# Altium integrated library Linear Technology Power Management System Supervisor, Monitor and Control.IntLib: 1611 symbols (part 95 of 100)
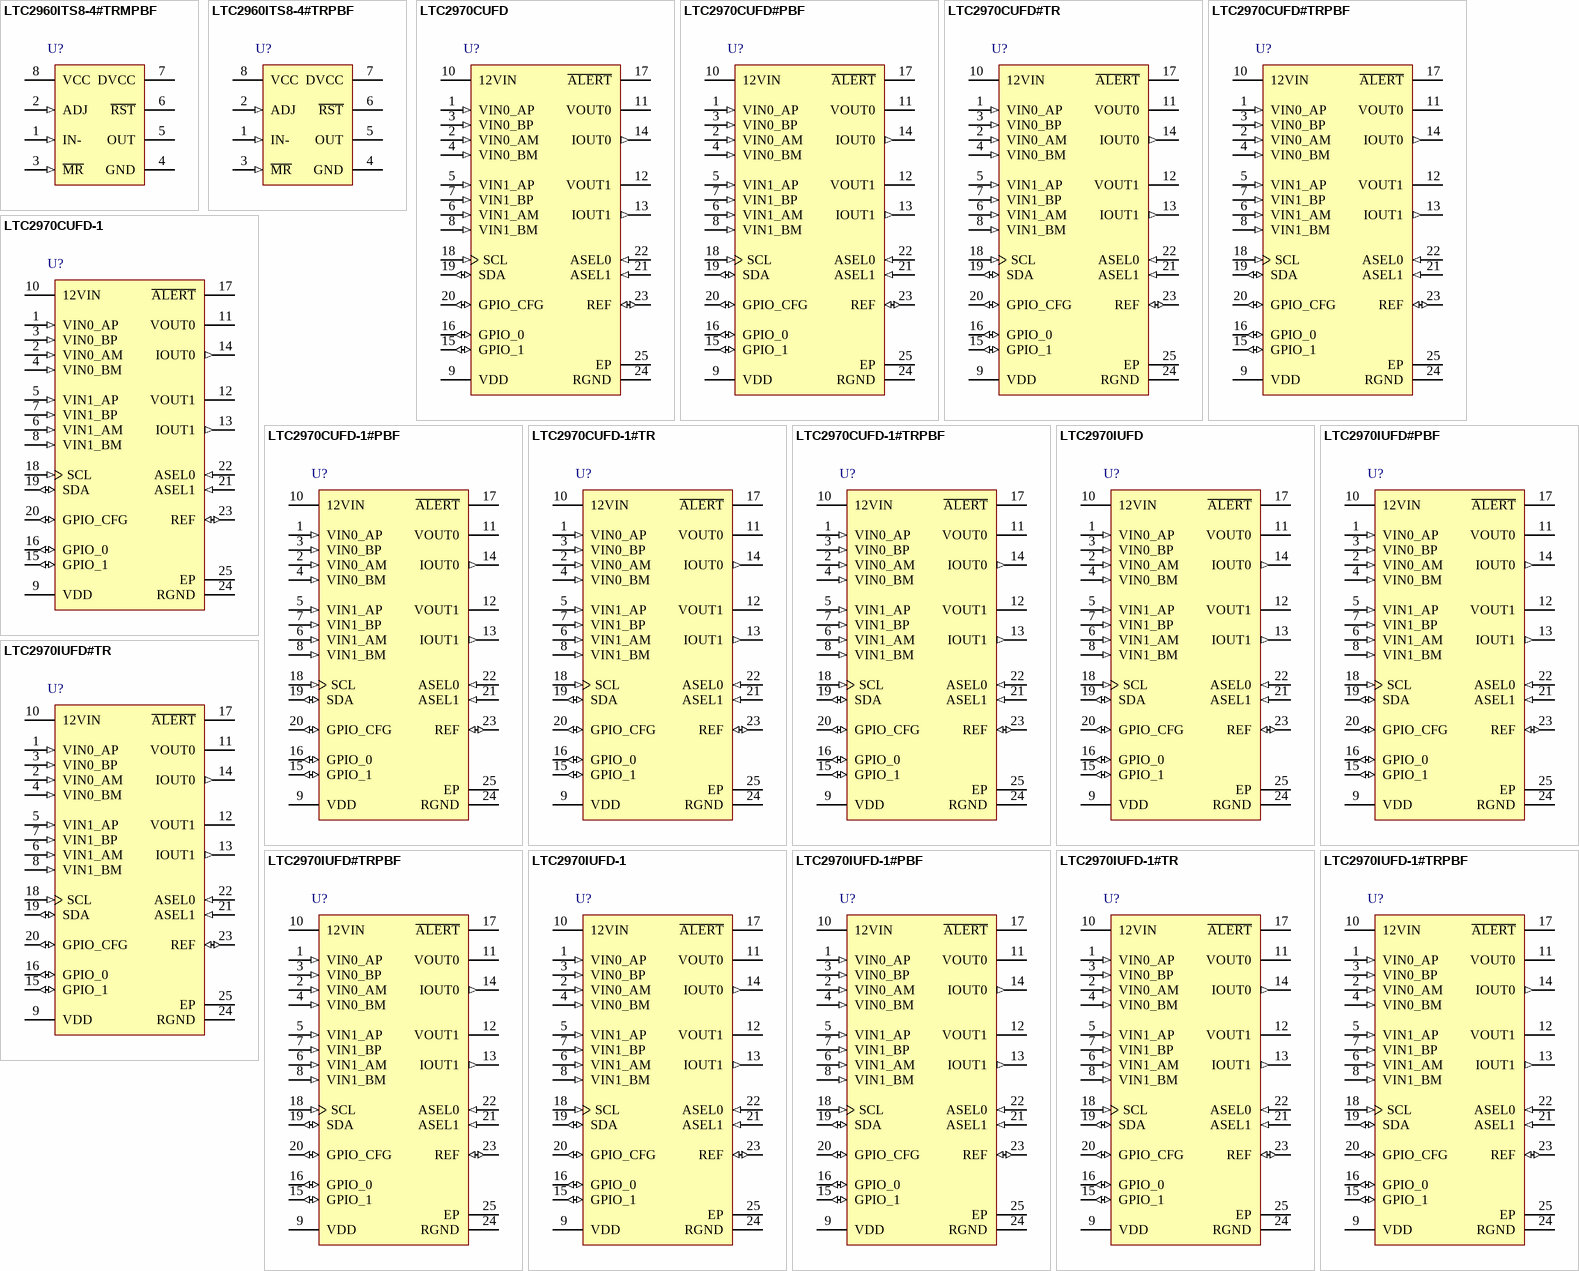
[diagram p139: symbols LTC2960ITS8-4#TRMPBF to LTC2970IUFD-1#TRPBF]

## LTC2960ITS8-4#TRMPBF
designator U?
36 V Nano-Current Two Input Voltage Monitor, 8-pin SOT23 (TS8-8), -40 to 85 degC, Pb-Free, Mini Tape and Reel; Manufacturer: Linear Technology; PartNumber: LTC2960ITS8-4#TRMPBF; Number of Supplies(#): 2; PackageVersion: Rev. A, 08/2010; PackageReference: TS8-8; PackageDescription: 8-Pin Plastic TSOT-23, Body 2.9 x 1.63 mm, Pitch 0.65 mm; Supplier 1: Digi-Key; Supplier Part Number 1: LTC2960ITS8-4#TRMPBFTR-ND; Supplier 2: Digi-Key; Supplier Part Number 2: LTC2960ITS8-4#TRMPBFCT-ND; Supplier 3: Digi-Key; Supplier Part Number 3: LTC2960ITS8-4#TRMPBFDKR-ND; Packing: Mini Tape and Reel; RoHS: TRUE; Mounting Technology: Surface Mount; Code_JEDEC: MO-193; ComponentLink1Description: Manufacturer URL; ComponentLink1URL: http://www.linear.com/; ComponentLink2Description: Datasheet; ComponentLink2URL: http://cds.linear.com/docs/en/datasheet/2960f.pdf; ComponentLink3Description: Package Specification; ComponentLink3URL: http://cds.linear.com/docs/en/packaging/SOT_8_05-08-1637.pdf
footprint LT-TS8-8-TSOT-23_V (SOT23, 8-Leads, Body 2.9x1.75mm, Pitch 0.65mm)
pins: 1 IN- (in) "IN- Threshold Adjustment Input. Tie to resistive divider to configure required threshold. Tie to GND if unused.", 2 ADJ (in) "Reset Threshold Adjustment Input. Tie to resistive divider to configure desired reset threshold.", 3 ~{MR} (in) "Manual Reset Input. Attach a push-button switch or logic signal between this input and ground. A logic low on this input pulls R\S\T\ low. When the M\R\ input returns to logic high, R\S\T\ returns high after a reset timeout (See Datasheet)", 4 GND (power) "Device ground.", 5 OUT (oc) "OUT pulls low when the monitored voltage rises above the IN- threshold. Released when monitored voltage falls below IN- threshold by 5%. For the LTC2960-4, OUT is driven to DVCC for a logic high. OUT is open drain if DVCC is (See Datasheet)", 6 ~{RST} (oc) "Reset Output. Pulls low when monitored voltage falls below the reset (ADJ) threshold. R\S\T\ is released after monitored voltage exceeds the reset threshold plus 2.5% hysteresis and after reset timeout period has expired. (See Datasheet)", 7 DVCC (power) "Logic Supply Input. Used for setting the logic swing of the R\S\T\ and OUT outputs. Useful for interfacing with logic voltages different from VCC. Bypass DVCC with 0.1uF to GND. Grounding DVCC allows OUT and R\S\T\ to act as (See Datasheet)", 8 VCC (power) "Power Supply Input. When VCC falls below the falling UVLO threshold, the outputs are pulled low. If VCC falls below 1.2V the logic state of the outputs cannot be guaranteed. Bypass VCC with 0.1uF to GND. Use appropriate (See Datasheet)"

## LTC2960ITS8-4#TRPBF
designator U?
36 V Nano-Current Two Input Voltage Monitor, 8-pin SOT23 (TS8-8), -40 to 85 degC, Pb-Free, Tape and Reel; Manufacturer: Linear Technology; PartNumber: LTC2960ITS8-4#TRPBF; Number of Supplies(#): 2; PackageVersion: Rev. A, 08/2010; PackageReference: TS8-8; PackageDescription: 8-Pin Plastic TSOT-23, Body 2.9 x 1.63 mm, Pitch 0.65 mm; Supplier 1: Digi-Key; Supplier Part Number 1: LTC2960ITS8-4#TRPBF-ND; Packing: Tape and Reel; RoHS: TRUE; Mounting Technology: Surface Mount; Code_JEDEC: MO-193; ComponentLink1Description: Manufacturer URL; ComponentLink1URL: http://www.linear.com/; ComponentLink2Description: Datasheet; ComponentLink2URL: http://cds.linear.com/docs/en/datasheet/2960f.pdf; ComponentLink3Description: Package Specification; ComponentLink3URL: http://cds.linear.com/docs/en/packaging/SOT_8_05-08-1637.pdf
footprint LT-TS8-8-TSOT-23_V (SOT23, 8-Leads, Body 2.9x1.75mm, Pitch 0.65mm)
pins: 1 IN- (in) "IN- Threshold Adjustment Input. Tie to resistive divider to configure required threshold. Tie to GND if unused.", 2 ADJ (in) "Reset Threshold Adjustment Input. Tie to resistive divider to configure desired reset threshold.", 3 ~{MR} (in) "Manual Reset Input. Attach a push-button switch or logic signal between this input and ground. A logic low on this input pulls R\S\T\ low. When the M\R\ input returns to logic high, R\S\T\ returns high after a reset timeout (See Datasheet)", 4 GND (power) "Device ground.", 5 OUT (oc) "OUT pulls low when the monitored voltage rises above the IN- threshold. Released when monitored voltage falls below IN- threshold by 5%. For the LTC2960-4, OUT is driven to DVCC for a logic high. OUT is open drain if DVCC is (See Datasheet)", 6 ~{RST} (oc) "Reset Output. Pulls low when monitored voltage falls below the reset (ADJ) threshold. R\S\T\ is released after monitored voltage exceeds the reset threshold plus 2.5% hysteresis and after reset timeout period has expired. (See Datasheet)", 7 DVCC (power) "Logic Supply Input. Used for setting the logic swing of the R\S\T\ and OUT outputs. Useful for interfacing with logic voltages different from VCC. Bypass DVCC with 0.1uF to GND. Grounding DVCC allows OUT and R\S\T\ to act as (See Datasheet)", 8 VCC (power) "Power Supply Input. When VCC falls below the falling UVLO threshold, the outputs are pulled low. If VCC falls below 1.2V the logic state of the outputs cannot be guaranteed. Bypass VCC with 0.1uF to GND. Use appropriate (See Datasheet)"

## LTC2970CUFD
designator U?
Dual I2C Power Supply Monitor and Margining Controller, 24-pin QFN (UFD-24), 0 to 70 degC; Manufacturer: Linear Technology; PartNumber: LTC2970CUFD; Number of Supplies(#): 2; DatasheetVersion: Rev. C; PackageVersion: Rev. A, 06/2010; PackageReference: UFD-24; PackageDescription: 24-Pin Plastic QFN, Body 5 x 4 mm, Pitch 0.5 mm; RoHS: FALSE; Mounting Technology: Surface Mount; Code_JEDEC: MO-220; ComponentLink1Description: Manufacturer URL; ComponentLink1URL: http://www.linear.com/; ComponentLink2Description: Datasheet; ComponentLink2URL: http://cds.linear.com/docs/en/datasheet/29701fc.pdf; ComponentLink3Description: Package Specification; ComponentLink3URL: http://cds.linear.com/docs/en/packaging/QFN_24_05-08-1696.pdf
footprint LT-UFD-24_N (QFN, 24-Leads, Body 5.1x4.1mm, Pitch 0.5mm, Thermal Pad 3.65x2.65 mm, IPC Medium Density)
footprint LT-UFD-24_L (QFN, 24-Leads, Body 5.1x4.1mm, Pitch 0.5mm, Thermal Pad 3.65x2.65 mm, IPC High Density)
footprint LT-UFD-24_M (QFN, 24-Leads, Body 5.1x4.1mm, Pitch 0.5mm, Thermal Pad 3.65x2.65 mm, IPC Low Density)
pins: 1 VIN0_AP (in) "Positive CH0_A ADC Multiplexer Input. The output of the differential, 7:1 multiplexer connects to the input of the ADC. CH0_A can be configured to servo IDAC0.", 2 VIN0_AM (in) "Negative CH0_A ADC Multiplexer Input. The output of the differential, 7:1 multiplexer connects to the input of the ADC. CH0_A can be configured to servo IDAC0.", 3 VIN0_BP (in) "Positive CH0_B ADC Multiplexer Input. The output of the differential, 7:1 multiplexer connects to the input of the ADC. CH0_B is a voltage monitor input only.", 4 VIN0_BM (in) "Negative CH0_B ADC Multiplexer Input. The output of the differential, 7:1 multiplexer connects to the input of the ADC. CH0_B is a voltage monitor input only.", 5 VIN1_AP (in) "Positive CH1_A ADC Multiplexer Input. The output of the differential, 7:1 multiplexer connects to the input of the ADC. CH1_A can be configured to servo IDAC1.", 6 VIN1_AM (in) "Negative CH1_A ADC Multiplexer Input. The output of the differential, 7:1 multiplexer connects to the input of the ADC. CH1_A can be configured to servo IDAC1.", 7 VIN1_BP (in) "Positive CH1_B ADC Multiplexer Input. The output of the differential, 7:1 multiplexer connects to the input of the ADC. CH1_B is a voltage monitor input only.", 8 VIN1_BM (in) "Negative CH1_B ADC Multiplexer Input. The output of the differential, 7:1 multiplexer connects to the input of the ADC. CH1_B is a voltage monitor input only.", 9 VDD (power) "VDD Power Supply, Voltage Monitor Input, and Internal 5V Regulator Output. The supply input range is 4.5V to 5.75V. The VDD pin voltage can be connected to the ADC through an internal mux. Bypass the VDD pin to device ground (See Datasheet)", 10 12VIN (power) "12V Power Supply and Voltage Monitor Input. An internal regulator generates 5V from 12VIN. The input range for 12VIN is 8V to 15V. Bypass this pin with a 100nF capacitor. The regulator’s output is connected to the VDD pin(See Datasheet)", 11 VOUT0 (power) "CH0 Voltage Output. Buffered version of IDAC0 output voltage.", 12 VOUT1 (power) "CH1 Voltage Output. Buffered version of IDAC1 output voltage.", 13 IOUT1 (out) "IDAC1 Current Output. Connect a resistor between this pin and the point-of-load ground for channel 1. The IDAC sources between 0 and 255uA.", 14 IOUT0 (out) "IDAC0 Current Output. Connect a resistor between this pin and the point-of-load ground for channel 0. The IDAC sources between 0 and 255uA.", 15 GPIO_1 (io) "General Purpose Input or Open Drain Digital Output. GPIO_1 can be configured as the IDAC Fault or Faults output, a digital input, or an open-drain digital output.", 16 GPIO_0 (io) "General Purpose Input or Open Drain Digital Output. GPIO_0 can be configured as the voltage monitor power-good or power-good bar output, a digital input, or a programmable open-drain output. Power good is the NOR of all (See Datasheet)", 17 ~{ALERT} (oc) "Open Drain Digital Output. Connect the SMBALERT signal to this pin. A\L\E\R\T\ is asserted low when either IDAC0 or IDAC1 rails out (optional), or when one of the monitored voltages ventures outside its UV and OV thresholds (See Datasheet)", 18 SCL (in) "Serial Bus Clock Input.", 19 SDA (io) "Serial Bus Data Input and Output.", 20 GPIO_CFG (io) "GPIO Configuration Digital Input and Open Drain Output. Pulling GPIO_CFG high will cause the GPIO_0 and GPIO_1 open-drain outputs to automatically assert low after a power-on reset. If GPIO_CFG is pulled low, then GPIO_0 and (See Datasheet)", 21 ASEL1 (in) "Slave Address Select Bit 1. Tie this pin to the VDD pin, ground, or float in order to select the address location (see Table 2).", 22 ASEL0 (in) "Slave Address Select Bit 0. Tie this pin to the VDD pin, ground, or float in order to select the address location (see Table 2).", 23 REF (io) "Internal Reference Output or ADC Reference Overdrive Input. The voltage at this pin determines the full-scale input voltage of the delta-sigma ADC (VFULLSCALE = 6.65 • VREF , typically). An internal 3.5k resistor decouple(See Datasheet)", 24 RGND (power) "Reference Ground. Connect to device ground.", 25 EP (power) "Device Ground. Must be soldered to ground."

## LTC2970CUFD#PBF
designator U?
Dual I2C Power Supply Monitor and Margining Controller, 24-pin QFN (UFD-24), 0 to 70 degC, Pb-Free; Manufacturer: Linear Technology; PartNumber: LTC2970CUFD#PBF; Number of Supplies(#): 2; DatasheetVersion: Rev. C; PackageVersion: Rev. A, 06/2010; PackageReference: UFD-24; PackageDescription: 24-Pin Plastic QFN, Body 5 x 4 mm, Pitch 0.5 mm; Supplier 1: Digi-Key; Supplier Part Number 1: LTC2970CUFD#PBF-ND; Supplier 2: Newark; Supplier Part Number 2: 56M7286; RoHS: TRUE; Mounting Technology: Surface Mount; Code_JEDEC: MO-220; ComponentLink1Description: Manufacturer URL; ComponentLink1URL: http://www.linear.com/; ComponentLink2Description: Datasheet; ComponentLink2URL: http://cds.linear.com/docs/en/datasheet/29701fc.pdf; ComponentLink3Description: Package Specification; ComponentLink3URL: http://cds.linear.com/docs/en/packaging/QFN_24_05-08-1696.pdf
footprint LT-UFD-24_N (QFN, 24-Leads, Body 5.1x4.1mm, Pitch 0.5mm, Thermal Pad 3.65x2.65 mm, IPC Medium Density)
footprint LT-UFD-24_L (QFN, 24-Leads, Body 5.1x4.1mm, Pitch 0.5mm, Thermal Pad 3.65x2.65 mm, IPC High Density)
footprint LT-UFD-24_M (QFN, 24-Leads, Body 5.1x4.1mm, Pitch 0.5mm, Thermal Pad 3.65x2.65 mm, IPC Low Density)
pins: 1 VIN0_AP (in) "Positive CH0_A ADC Multiplexer Input. The output of the differential, 7:1 multiplexer connects to the input of the ADC. CH0_A can be configured to servo IDAC0.", 2 VIN0_AM (in) "Negative CH0_A ADC Multiplexer Input. The output of the differential, 7:1 multiplexer connects to the input of the ADC. CH0_A can be configured to servo IDAC0.", 3 VIN0_BP (in) "Positive CH0_B ADC Multiplexer Input. The output of the differential, 7:1 multiplexer connects to the input of the ADC. CH0_B is a voltage monitor input only.", 4 VIN0_BM (in) "Negative CH0_B ADC Multiplexer Input. The output of the differential, 7:1 multiplexer connects to the input of the ADC. CH0_B is a voltage monitor input only.", 5 VIN1_AP (in) "Positive CH1_A ADC Multiplexer Input. The output of the differential, 7:1 multiplexer connects to the input of the ADC. CH1_A can be configured to servo IDAC1.", 6 VIN1_AM (in) "Negative CH1_A ADC Multiplexer Input. The output of the differential, 7:1 multiplexer connects to the input of the ADC. CH1_A can be configured to servo IDAC1.", 7 VIN1_BP (in) "Positive CH1_B ADC Multiplexer Input. The output of the differential, 7:1 multiplexer connects to the input of the ADC. CH1_B is a voltage monitor input only.", 8 VIN1_BM (in) "Negative CH1_B ADC Multiplexer Input. The output of the differential, 7:1 multiplexer connects to the input of the ADC. CH1_B is a voltage monitor input only.", 9 VDD (power) "VDD Power Supply, Voltage Monitor Input, and Internal 5V Regulator Output. The supply input range is 4.5V to 5.75V. The VDD pin voltage can be connected to the ADC through an internal mux. Bypass the VDD pin to device ground (See Datasheet)", 10 12VIN (power) "12V Power Supply and Voltage Monitor Input. An internal regulator generates 5V from 12VIN. The input range for 12VIN is 8V to 15V. Bypass this pin with a 100nF capacitor. The regulator’s output is connected to the VDD pin(See Datasheet)", 11 VOUT0 (power) "CH0 Voltage Output. Buffered version of IDAC0 output voltage.", 12 VOUT1 (power) "CH1 Voltage Output. Buffered version of IDAC1 output voltage.", 13 IOUT1 (out) "IDAC1 Current Output. Connect a resistor between this pin and the point-of-load ground for channel 1. The IDAC sources between 0 and 255uA.", 14 IOUT0 (out) "IDAC0 Current Output. Connect a resistor between this pin and the point-of-load ground for channel 0. The IDAC sources between 0 and 255uA.", 15 GPIO_1 (io) "General Purpose Input or Open Drain Digital Output. GPIO_1 can be configured as the IDAC Fault or Faults output, a digital input, or an open-drain digital output.", 16 GPIO_0 (io) "General Purpose Input or Open Drain Digital Output. GPIO_0 can be configured as the voltage monitor power-good or power-good bar output, a digital input, or a programmable open-drain output. Power good is the NOR of all (See Datasheet)", 17 ~{ALERT} (oc) "Open Drain Digital Output. Connect the SMBALERT signal to this pin. A\L\E\R\T\ is asserted low when either IDAC0 or IDAC1 rails out (optional), or when one of the monitored voltages ventures outside its UV and OV thresholds (See Datasheet)", 18 SCL (in) "Serial Bus Clock Input.", 19 SDA (io) "Serial Bus Data Input and Output.", 20 GPIO_CFG (io) "GPIO Configuration Digital Input and Open Drain Output. Pulling GPIO_CFG high will cause the GPIO_0 and GPIO_1 open-drain outputs to automatically assert low after a power-on reset. If GPIO_CFG is pulled low, then GPIO_0 and (See Datasheet)", 21 ASEL1 (in) "Slave Address Select Bit 1. Tie this pin to the VDD pin, ground, or float in order to select the address location (see Table 2).", 22 ASEL0 (in) "Slave Address Select Bit 0. Tie this pin to the VDD pin, ground, or float in order to select the address location (see Table 2).", 23 REF (io) "Internal Reference Output or ADC Reference Overdrive Input. The voltage at this pin determines the full-scale input voltage of the delta-sigma ADC (VFULLSCALE = 6.65 • VREF , typically). An internal 3.5k resistor decouple(See Datasheet)", 24 RGND (power) "Reference Ground. Connect to device ground.", 25 EP (power) "Device Ground. Must be soldered to ground."

## LTC2970CUFD#TR
designator U?
Dual I2C Power Supply Monitor and Margining Controller, 24-pin QFN (UFD-24), 0 to 70 degC, Tape and Reel; Manufacturer: Linear Technology; PartNumber: LTC2970CUFD#TR; Number of Supplies(#): 2; DatasheetVersion: Rev. C; PackageVersion: Rev. A, 06/2010; PackageReference: UFD-24; PackageDescription: 24-Pin Plastic QFN, Body 5 x 4 mm, Pitch 0.5 mm; Packing: Tape and Reel; RoHS: FALSE; Mounting Technology: Surface Mount; Code_JEDEC: MO-220; ComponentLink1Description: Manufacturer URL; ComponentLink1URL: http://www.linear.com/; ComponentLink2Description: Datasheet; ComponentLink2URL: http://cds.linear.com/docs/en/datasheet/29701fc.pdf; ComponentLink3Description: Package Specification; ComponentLink3URL: http://cds.linear.com/docs/en/packaging/QFN_24_05-08-1696.pdf
footprint LT-UFD-24_N (QFN, 24-Leads, Body 5.1x4.1mm, Pitch 0.5mm, Thermal Pad 3.65x2.65 mm, IPC Medium Density)
footprint LT-UFD-24_L (QFN, 24-Leads, Body 5.1x4.1mm, Pitch 0.5mm, Thermal Pad 3.65x2.65 mm, IPC High Density)
footprint LT-UFD-24_M (QFN, 24-Leads, Body 5.1x4.1mm, Pitch 0.5mm, Thermal Pad 3.65x2.65 mm, IPC Low Density)
pins: 1 VIN0_AP (in) "Positive CH0_A ADC Multiplexer Input. The output of the differential, 7:1 multiplexer connects to the input of the ADC. CH0_A can be configured to servo IDAC0.", 2 VIN0_AM (in) "Negative CH0_A ADC Multiplexer Input. The output of the differential, 7:1 multiplexer connects to the input of the ADC. CH0_A can be configured to servo IDAC0.", 3 VIN0_BP (in) "Positive CH0_B ADC Multiplexer Input. The output of the differential, 7:1 multiplexer connects to the input of the ADC. CH0_B is a voltage monitor input only.", 4 VIN0_BM (in) "Negative CH0_B ADC Multiplexer Input. The output of the differential, 7:1 multiplexer connects to the input of the ADC. CH0_B is a voltage monitor input only.", 5 VIN1_AP (in) "Positive CH1_A ADC Multiplexer Input. The output of the differential, 7:1 multiplexer connects to the input of the ADC. CH1_A can be configured to servo IDAC1.", 6 VIN1_AM (in) "Negative CH1_A ADC Multiplexer Input. The output of the differential, 7:1 multiplexer connects to the input of the ADC. CH1_A can be configured to servo IDAC1.", 7 VIN1_BP (in) "Positive CH1_B ADC Multiplexer Input. The output of the differential, 7:1 multiplexer connects to the input of the ADC. CH1_B is a voltage monitor input only.", 8 VIN1_BM (in) "Negative CH1_B ADC Multiplexer Input. The output of the differential, 7:1 multiplexer connects to the input of the ADC. CH1_B is a voltage monitor input only.", 9 VDD (power) "VDD Power Supply, Voltage Monitor Input, and Internal 5V Regulator Output. The supply input range is 4.5V to 5.75V. The VDD pin voltage can be connected to the ADC through an internal mux. Bypass the VDD pin to device ground (See Datasheet)", 10 12VIN (power) "12V Power Supply and Voltage Monitor Input. An internal regulator generates 5V from 12VIN. The input range for 12VIN is 8V to 15V. Bypass this pin with a 100nF capacitor. The regulator’s output is connected to the VDD pin(See Datasheet)", 11 VOUT0 (power) "CH0 Voltage Output. Buffered version of IDAC0 output voltage.", 12 VOUT1 (power) "CH1 Voltage Output. Buffered version of IDAC1 output voltage.", 13 IOUT1 (out) "IDAC1 Current Output. Connect a resistor between this pin and the point-of-load ground for channel 1. The IDAC sources between 0 and 255uA.", 14 IOUT0 (out) "IDAC0 Current Output. Connect a resistor between this pin and the point-of-load ground for channel 0. The IDAC sources between 0 and 255uA.", 15 GPIO_1 (io) "General Purpose Input or Open Drain Digital Output. GPIO_1 can be configured as the IDAC Fault or Faults output, a digital input, or an open-drain digital output.", 16 GPIO_0 (io) "General Purpose Input or Open Drain Digital Output. GPIO_0 can be configured as the voltage monitor power-good or power-good bar output, a digital input, or a programmable open-drain output. Power good is the NOR of all (See Datasheet)", 17 ~{ALERT} (oc) "Open Drain Digital Output. Connect the SMBALERT signal to this pin. A\L\E\R\T\ is asserted low when either IDAC0 or IDAC1 rails out (optional), or when one of the monitored voltages ventures outside its UV and OV thresholds (See Datasheet)", 18 SCL (in) "Serial Bus Clock Input.", 19 SDA (io) "Serial Bus Data Input and Output.", 20 GPIO_CFG (io) "GPIO Configuration Digital Input and Open Drain Output. Pulling GPIO_CFG high will cause the GPIO_0 and GPIO_1 open-drain outputs to automatically assert low after a power-on reset. If GPIO_CFG is pulled low, then GPIO_0 and (See Datasheet)", 21 ASEL1 (in) "Slave Address Select Bit 1. Tie this pin to the VDD pin, ground, or float in order to select the address location (see Table 2).", 22 ASEL0 (in) "Slave Address Select Bit 0. Tie this pin to the VDD pin, ground, or float in order to select the address location (see Table 2).", 23 REF (io) "Internal Reference Output or ADC Reference Overdrive Input. The voltage at this pin determines the full-scale input voltage of the delta-sigma ADC (VFULLSCALE = 6.65 • VREF , typically). An internal 3.5k resistor decouple(See Datasheet)", 24 RGND (power) "Reference Ground. Connect to device ground.", 25 EP (power) "Device Ground. Must be soldered to ground."

## LTC2970CUFD#TRPBF
designator U?
Dual I2C Power Supply Monitor and Margining Controller, 24-pin QFN (UFD-24), 0 to 70 degC, Pb-Free, Tape and Reel; Manufacturer: Linear Technology; PartNumber: LTC2970CUFD#TRPBF; Number of Supplies(#): 2; DatasheetVersion: Rev. C; PackageVersion: Rev. A, 06/2010; PackageReference: UFD-24; PackageDescription: 24-Pin Plastic QFN, Body 5 x 4 mm, Pitch 0.5 mm; Supplier 1: Digi-Key; Supplier Part Number 1: LTC2970CUFD#TRPBF-ND; Packing: Tape and Reel; RoHS: TRUE; Mounting Technology: Surface Mount; Code_JEDEC: MO-220; ComponentLink1Description: Manufacturer URL; ComponentLink1URL: http://www.linear.com/; ComponentLink2Description: Datasheet; ComponentLink2URL: http://cds.linear.com/docs/en/datasheet/29701fc.pdf; ComponentLink3Description: Package Specification; ComponentLink3URL: http://cds.linear.com/docs/en/packaging/QFN_24_05-08-1696.pdf
footprint LT-UFD-24_N (QFN, 24-Leads, Body 5.1x4.1mm, Pitch 0.5mm, Thermal Pad 3.65x2.65 mm, IPC Medium Density)
footprint LT-UFD-24_L (QFN, 24-Leads, Body 5.1x4.1mm, Pitch 0.5mm, Thermal Pad 3.65x2.65 mm, IPC High Density)
footprint LT-UFD-24_M (QFN, 24-Leads, Body 5.1x4.1mm, Pitch 0.5mm, Thermal Pad 3.65x2.65 mm, IPC Low Density)
pins: 1 VIN0_AP (in) "Positive CH0_A ADC Multiplexer Input. The output of the differential, 7:1 multiplexer connects to the input of the ADC. CH0_A can be configured to servo IDAC0.", 2 VIN0_AM (in) "Negative CH0_A ADC Multiplexer Input. The output of the differential, 7:1 multiplexer connects to the input of the ADC. CH0_A can be configured to servo IDAC0.", 3 VIN0_BP (in) "Positive CH0_B ADC Multiplexer Input. The output of the differential, 7:1 multiplexer connects to the input of the ADC. CH0_B is a voltage monitor input only.", 4 VIN0_BM (in) "Negative CH0_B ADC Multiplexer Input. The output of the differential, 7:1 multiplexer connects to the input of the ADC. CH0_B is a voltage monitor input only.", 5 VIN1_AP (in) "Positive CH1_A ADC Multiplexer Input. The output of the differential, 7:1 multiplexer connects to the input of the ADC. CH1_A can be configured to servo IDAC1.", 6 VIN1_AM (in) "Negative CH1_A ADC Multiplexer Input. The output of the differential, 7:1 multiplexer connects to the input of the ADC. CH1_A can be configured to servo IDAC1.", 7 VIN1_BP (in) "Positive CH1_B ADC Multiplexer Input. The output of the differential, 7:1 multiplexer connects to the input of the ADC. CH1_B is a voltage monitor input only.", 8 VIN1_BM (in) "Negative CH1_B ADC Multiplexer Input. The output of the differential, 7:1 multiplexer connects to the input of the ADC. CH1_B is a voltage monitor input only.", 9 VDD (power) "VDD Power Supply, Voltage Monitor Input, and Internal 5V Regulator Output. The supply input range is 4.5V to 5.75V. The VDD pin voltage can be connected to the ADC through an internal mux. Bypass the VDD pin to device ground (See Datasheet)", 10 12VIN (power) "12V Power Supply and Voltage Monitor Input. An internal regulator generates 5V from 12VIN. The input range for 12VIN is 8V to 15V. Bypass this pin with a 100nF capacitor. The regulator’s output is connected to the VDD pin(See Datasheet)", 11 VOUT0 (power) "CH0 Voltage Output. Buffered version of IDAC0 output voltage.", 12 VOUT1 (power) "CH1 Voltage Output. Buffered version of IDAC1 output voltage.", 13 IOUT1 (out) "IDAC1 Current Output. Connect a resistor between this pin and the point-of-load ground for channel 1. The IDAC sources between 0 and 255uA.", 14 IOUT0 (out) "IDAC0 Current Output. Connect a resistor between this pin and the point-of-load ground for channel 0. The IDAC sources between 0 and 255uA.", 15 GPIO_1 (io) "General Purpose Input or Open Drain Digital Output. GPIO_1 can be configured as the IDAC Fault or Faults output, a digital input, or an open-drain digital output.", 16 GPIO_0 (io) "General Purpose Input or Open Drain Digital Output. GPIO_0 can be configured as the voltage monitor power-good or power-good bar output, a digital input, or a programmable open-drain output. Power good is the NOR of all (See Datasheet)", 17 ~{ALERT} (oc) "Open Drain Digital Output. Connect the SMBALERT signal to this pin. A\L\E\R\T\ is asserted low when either IDAC0 or IDAC1 rails out (optional), or when one of the monitored voltages ventures outside its UV and OV thresholds (See Datasheet)", 18 SCL (in) "Serial Bus Clock Input.", 19 SDA (io) "Serial Bus Data Input and Output.", 20 GPIO_CFG (io) "GPIO Configuration Digital Input and Open Drain Output. Pulling GPIO_CFG high will cause the GPIO_0 and GPIO_1 open-drain outputs to automatically assert low after a power-on reset. If GPIO_CFG is pulled low, then GPIO_0 and (See Datasheet)", 21 ASEL1 (in) "Slave Address Select Bit 1. Tie this pin to the VDD pin, ground, or float in order to select the address location (see Table 2).", 22 ASEL0 (in) "Slave Address Select Bit 0. Tie this pin to the VDD pin, ground, or float in order to select the address location (see Table 2).", 23 REF (io) "Internal Reference Output or ADC Reference Overdrive Input. The voltage at this pin determines the full-scale input voltage of the delta-sigma ADC (VFULLSCALE = 6.65 • VREF , typically). An internal 3.5k resistor decouple(See Datasheet)", 24 RGND (power) "Reference Ground. Connect to device ground.", 25 EP (power) "Device Ground. Must be soldered to ground."

## LTC2970CUFD-1
designator U?
Dual I2C Power Supply Monitor and Margining Controller, 24-pin QFN (UFD-24), 0 to 70 degC; Manufacturer: Linear Technology; PartNumber: LTC2970CUFD-1; Number of Supplies(#): 2; DatasheetVersion: Rev. C; PackageVersion: Rev. A, 06/2010; PackageReference: UFD-24; PackageDescription: 24-Pin Plastic QFN, Body 5 x 4 mm, Pitch 0.5 mm; RoHS: FALSE; Mounting Technology: Surface Mount; Code_JEDEC: MO-220; ComponentLink1Description: Manufacturer URL; ComponentLink1URL: http://www.linear.com/; ComponentLink2Description: Datasheet; ComponentLink2URL: http://cds.linear.com/docs/en/datasheet/29701fc.pdf; ComponentLink3Description: Package Specification; ComponentLink3URL: http://cds.linear.com/docs/en/packaging/QFN_24_05-08-1696.pdf
footprint LT-UFD-24_N (QFN, 24-Leads, Body 5.1x4.1mm, Pitch 0.5mm, Thermal Pad 3.65x2.65 mm, IPC Medium Density)
footprint LT-UFD-24_L (QFN, 24-Leads, Body 5.1x4.1mm, Pitch 0.5mm, Thermal Pad 3.65x2.65 mm, IPC High Density)
footprint LT-UFD-24_M (QFN, 24-Leads, Body 5.1x4.1mm, Pitch 0.5mm, Thermal Pad 3.65x2.65 mm, IPC Low Density)
pins: 1 VIN0_AP (in) "Positive CH0_A ADC Multiplexer Input. The output of the differential, 7:1 multiplexer connects to the input of the ADC. CH0_A can be configured to servo IDAC0.", 2 VIN0_AM (in) "Negative CH0_A ADC Multiplexer Input. The output of the differential, 7:1 multiplexer connects to the input of the ADC. CH0_A can be configured to servo IDAC0.", 3 VIN0_BP (in) "Positive CH0_B ADC Multiplexer Input. The output of the differential, 7:1 multiplexer connects to the input of the ADC. CH0_B is a voltage monitor input only.", 4 VIN0_BM (in) "Negative CH0_B ADC Multiplexer Input. The output of the differential, 7:1 multiplexer connects to the input of the ADC. CH0_B is a voltage monitor input only.", 5 VIN1_AP (in) "Positive CH1_A ADC Multiplexer Input. The output of the differential, 7:1 multiplexer connects to the input of the ADC. CH1_A can be configured to servo IDAC1.", 6 VIN1_AM (in) "Negative CH1_A ADC Multiplexer Input. The output of the differential, 7:1 multiplexer connects to the input of the ADC. CH1_A can be configured to servo IDAC1.", 7 VIN1_BP (in) "Positive CH1_B ADC Multiplexer Input. The output of the differential, 7:1 multiplexer connects to the input of the ADC. CH1_B is a voltage monitor input only.", 8 VIN1_BM (in) "Negative CH1_B ADC Multiplexer Input. The output of the differential, 7:1 multiplexer connects to the input of the ADC. CH1_B is a voltage monitor input only.", 9 VDD (power) "VDD Power Supply, Voltage Monitor Input, and Internal 5V Regulator Output. The supply input range is 4.5V to 5.75V. The VDD pin voltage can be connected to the ADC through an internal mux. Bypass the VDD pin to device ground (See Datasheet)", 10 12VIN (power) "12V Power Supply and Voltage Monitor Input. An internal regulator generates 5V from 12VIN. The input range for 12VIN is 8V to 15V. Bypass this pin with a 100nF capacitor. The regulator’s output is connected to the VDD pin(See Datasheet)", 11 VOUT0 (power) "CH0 Voltage Output. Buffered version of IDAC0 output voltage.", 12 VOUT1 (power) "CH1 Voltage Output. Buffered version of IDAC1 output voltage.", 13 IOUT1 (out) "IDAC1 Current Output. Connect a resistor between this pin and the point-of-load ground for channel 1. The IDAC sources between 0 and 255uA.", 14 IOUT0 (out) "IDAC0 Current Output. Connect a resistor between this pin and the point-of-load ground for channel 0. The IDAC sources between 0 and 255uA.", 15 GPIO_1 (io) "General Purpose Input or Open Drain Digital Output. GPIO_1 can be configured as the IDAC Fault or Faults output, a digital input, or an open-drain digital output.", 16 GPIO_0 (io) "General Purpose Input or Open Drain Digital Output. GPIO_0 can be configured as the voltage monitor power-good or power-good bar output, a digital input, or a programmable open-drain output. Power good is the NOR of all (See Datasheet)", 17 ~{ALERT} (oc) "Open Drain Digital Output. Connect the SMBALERT signal to this pin. A\L\E\R\T\ is asserted low when either IDAC0 or IDAC1 rails out (optional), or when one of the monitored voltages ventures outside its UV and OV thresholds (See Datasheet)", 18 SCL (in) "Serial Bus Clock Input.", 19 SDA (io) "Serial Bus Data Input and Output.", 20 GPIO_CFG (io) "GPIO Configuration Digital Input and Open Drain Output. Pulling GPIO_CFG high will cause the GPIO_0 and GPIO_1 open-drain outputs to automatically assert low after a power-on reset. If GPIO_CFG is pulled low, then GPIO_0 and (See Datasheet)", 21 ASEL1 (in) "Slave Address Select Bit 1. Tie this pin to the VDD pin, ground, or float in order to select the address location (see Table 2).", 22 ASEL0 (in) "Slave Address Select Bit 0. Tie this pin to the VDD pin, ground, or float in order to select the address location (see Table 2).", 23 REF (io) "Internal Reference Output or ADC Reference Overdrive Input. The voltage at this pin determines the full-scale input voltage of the delta-sigma ADC (VFULLSCALE = 6.65 • VREF , typically). An internal 3.5k resistor decouple(See Datasheet)", 24 RGND (power) "Reference Ground. Connect to device ground.", 25 EP (power) "Device Ground. Must be soldered to ground."

## LTC2970CUFD-1#PBF
designator U?
Dual I2C Power Supply Monitor and Margining Controller, 24-pin QFN (UFD-24), 0 to 70 degC, Pb-Free; Manufacturer: Linear Technology; PartNumber: LTC2970CUFD-1#PBF; Number of Supplies(#): 2; DatasheetVersion: Rev. C; PackageVersion: Rev. A, 06/2010; PackageReference: UFD-24; PackageDescription: 24-Pin Plastic QFN, Body 5 x 4 mm, Pitch 0.5 mm; Supplier 1: Digi-Key; Supplier Part Number 1: LTC2970CUFD-1#PBF-ND; RoHS: TRUE; Mounting Technology: Surface Mount; Code_JEDEC: MO-220; ComponentLink1Description: Manufacturer URL; ComponentLink1URL: http://www.linear.com/; ComponentLink2Description: Datasheet; ComponentLink2URL: http://cds.linear.com/docs/en/datasheet/29701fc.pdf; ComponentLink3Description: Package Specification; ComponentLink3URL: http://cds.linear.com/docs/en/packaging/QFN_24_05-08-1696.pdf
footprint LT-UFD-24_N (QFN, 24-Leads, Body 5.1x4.1mm, Pitch 0.5mm, Thermal Pad 3.65x2.65 mm, IPC Medium Density)
footprint LT-UFD-24_L (QFN, 24-Leads, Body 5.1x4.1mm, Pitch 0.5mm, Thermal Pad 3.65x2.65 mm, IPC High Density)
footprint LT-UFD-24_M (QFN, 24-Leads, Body 5.1x4.1mm, Pitch 0.5mm, Thermal Pad 3.65x2.65 mm, IPC Low Density)
pins: 1 VIN0_AP (in) "Positive CH0_A ADC Multiplexer Input. The output of the differential, 7:1 multiplexer connects to the input of the ADC. CH0_A can be configured to servo IDAC0.", 2 VIN0_AM (in) "Negative CH0_A ADC Multiplexer Input. The output of the differential, 7:1 multiplexer connects to the input of the ADC. CH0_A can be configured to servo IDAC0.", 3 VIN0_BP (in) "Positive CH0_B ADC Multiplexer Input. The output of the differential, 7:1 multiplexer connects to the input of the ADC. CH0_B is a voltage monitor input only.", 4 VIN0_BM (in) "Negative CH0_B ADC Multiplexer Input. The output of the differential, 7:1 multiplexer connects to the input of the ADC. CH0_B is a voltage monitor input only.", 5 VIN1_AP (in) "Positive CH1_A ADC Multiplexer Input. The output of the differential, 7:1 multiplexer connects to the input of the ADC. CH1_A can be configured to servo IDAC1.", 6 VIN1_AM (in) "Negative CH1_A ADC Multiplexer Input. The output of the differential, 7:1 multiplexer connects to the input of the ADC. CH1_A can be configured to servo IDAC1.", 7 VIN1_BP (in) "Positive CH1_B ADC Multiplexer Input. The output of the differential, 7:1 multiplexer connects to the input of the ADC. CH1_B is a voltage monitor input only.", 8 VIN1_BM (in) "Negative CH1_B ADC Multiplexer Input. The output of the differential, 7:1 multiplexer connects to the input of the ADC. CH1_B is a voltage monitor input only.", 9 VDD (power) "VDD Power Supply, Voltage Monitor Input, and Internal 5V Regulator Output. The supply input range is 4.5V to 5.75V. The VDD pin voltage can be connected to the ADC through an internal mux. Bypass the VDD pin to device ground (See Datasheet)", 10 12VIN (power) "12V Power Supply and Voltage Monitor Input. An internal regulator generates 5V from 12VIN. The input range for 12VIN is 8V to 15V. Bypass this pin with a 100nF capacitor. The regulator’s output is connected to the VDD pin(See Datasheet)", 11 VOUT0 (power) "CH0 Voltage Output. Buffered version of IDAC0 output voltage.", 12 VOUT1 (power) "CH1 Voltage Output. Buffered version of IDAC1 output voltage.", 13 IOUT1 (out) "IDAC1 Current Output. Connect a resistor between this pin and the point-of-load ground for channel 1. The IDAC sources between 0 and 255uA.", 14 IOUT0 (out) "IDAC0 Current Output. Connect a resistor between this pin and the point-of-load ground for channel 0. The IDAC sources between 0 and 255uA.", 15 GPIO_1 (io) "General Purpose Input or Open Drain Digital Output. GPIO_1 can be configured as the IDAC Fault or Faults output, a digital input, or an open-drain digital output.", 16 GPIO_0 (io) "General Purpose Input or Open Drain Digital Output. GPIO_0 can be configured as the voltage monitor power-good or power-good bar output, a digital input, or a programmable open-drain output. Power good is the NOR of all (See Datasheet)", 17 ~{ALERT} (oc) "Open Drain Digital Output. Connect the SMBALERT signal to this pin. A\L\E\R\T\ is asserted low when either IDAC0 or IDAC1 rails out (optional), or when one of the monitored voltages ventures outside its UV and OV thresholds (See Datasheet)", 18 SCL (in) "Serial Bus Clock Input.", 19 SDA (io) "Serial Bus Data Input and Output.", 20 GPIO_CFG (io) "GPIO Configuration Digital Input and Open Drain Output. Pulling GPIO_CFG high will cause the GPIO_0 and GPIO_1 open-drain outputs to automatically assert low after a power-on reset. If GPIO_CFG is pulled low, then GPIO_0 and (See Datasheet)", 21 ASEL1 (in) "Slave Address Select Bit 1. Tie this pin to the VDD pin, ground, or float in order to select the address location (see Table 2).", 22 ASEL0 (in) "Slave Address Select Bit 0. Tie this pin to the VDD pin, ground, or float in order to select the address location (see Table 2).", 23 REF (io) "Internal Reference Output or ADC Reference Overdrive Input. The voltage at this pin determines the full-scale input voltage of the delta-sigma ADC (VFULLSCALE = 6.65 • VREF , typically). An internal 3.5k resistor decouple(See Datasheet)", 24 RGND (power) "Reference Ground. Connect to device ground.", 25 EP (power) "Device Ground. Must be soldered to ground."

## LTC2970CUFD-1#TR
designator U?
Dual I2C Power Supply Monitor and Margining Controller, 24-pin QFN (UFD-24), 0 to 70 degC, Tape and Reel; Manufacturer: Linear Technology; PartNumber: LTC2970CUFD-1#TR; Number of Supplies(#): 2; DatasheetVersion: Rev. C; PackageVersion: Rev. A, 06/2010; PackageReference: UFD-24; PackageDescription: 24-Pin Plastic QFN, Body 5 x 4 mm, Pitch 0.5 mm; Packing: Tape and Reel; RoHS: FALSE; Mounting Technology: Surface Mount; Code_JEDEC: MO-220; ComponentLink1Description: Manufacturer URL; ComponentLink1URL: http://www.linear.com/; ComponentLink2Description: Datasheet; ComponentLink2URL: http://cds.linear.com/docs/en/datasheet/29701fc.pdf; ComponentLink3Description: Package Specification; ComponentLink3URL: http://cds.linear.com/docs/en/packaging/QFN_24_05-08-1696.pdf
footprint LT-UFD-24_N (QFN, 24-Leads, Body 5.1x4.1mm, Pitch 0.5mm, Thermal Pad 3.65x2.65 mm, IPC Medium Density)
footprint LT-UFD-24_L (QFN, 24-Leads, Body 5.1x4.1mm, Pitch 0.5mm, Thermal Pad 3.65x2.65 mm, IPC High Density)
footprint LT-UFD-24_M (QFN, 24-Leads, Body 5.1x4.1mm, Pitch 0.5mm, Thermal Pad 3.65x2.65 mm, IPC Low Density)
pins: 1 VIN0_AP (in) "Positive CH0_A ADC Multiplexer Input. The output of the differential, 7:1 multiplexer connects to the input of the ADC. CH0_A can be configured to servo IDAC0.", 2 VIN0_AM (in) "Negative CH0_A ADC Multiplexer Input. The output of the differential, 7:1 multiplexer connects to the input of the ADC. CH0_A can be configured to servo IDAC0.", 3 VIN0_BP (in) "Positive CH0_B ADC Multiplexer Input. The output of the differential, 7:1 multiplexer connects to the input of the ADC. CH0_B is a voltage monitor input only.", 4 VIN0_BM (in) "Negative CH0_B ADC Multiplexer Input. The output of the differential, 7:1 multiplexer connects to the input of the ADC. CH0_B is a voltage monitor input only.", 5 VIN1_AP (in) "Positive CH1_A ADC Multiplexer Input. The output of the differential, 7:1 multiplexer connects to the input of the ADC. CH1_A can be configured to servo IDAC1.", 6 VIN1_AM (in) "Negative CH1_A ADC Multiplexer Input. The output of the differential, 7:1 multiplexer connects to the input of the ADC. CH1_A can be configured to servo IDAC1.", 7 VIN1_BP (in) "Positive CH1_B ADC Multiplexer Input. The output of the differential, 7:1 multiplexer connects to the input of the ADC. CH1_B is a voltage monitor input only.", 8 VIN1_BM (in) "Negative CH1_B ADC Multiplexer Input. The output of the differential, 7:1 multiplexer connects to the input of the ADC. CH1_B is a voltage monitor input only.", 9 VDD (power) "VDD Power Supply, Voltage Monitor Input, and Internal 5V Regulator Output. The supply input range is 4.5V to 5.75V. The VDD pin voltage can be connected to the ADC through an internal mux. Bypass the VDD pin to device ground (See Datasheet)", 10 12VIN (power) "12V Power Supply and Voltage Monitor Input. An internal regulator generates 5V from 12VIN. The input range for 12VIN is 8V to 15V. Bypass this pin with a 100nF capacitor. The regulator’s output is connected to the VDD pin(See Datasheet)", 11 VOUT0 (power) "CH0 Voltage Output. Buffered version of IDAC0 output voltage.", 12 VOUT1 (power) "CH1 Voltage Output. Buffered version of IDAC1 output voltage.", 13 IOUT1 (out) "IDAC1 Current Output. Connect a resistor between this pin and the point-of-load ground for channel 1. The IDAC sources between 0 and 255uA.", 14 IOUT0 (out) "IDAC0 Current Output. Connect a resistor between this pin and the point-of-load ground for channel 0. The IDAC sources between 0 and 255uA.", 15 GPIO_1 (io) "General Purpose Input or Open Drain Digital Output. GPIO_1 can be configured as the IDAC Fault or Faults output, a digital input, or an open-drain digital output.", 16 GPIO_0 (io) "General Purpose Input or Open Drain Digital Output. GPIO_0 can be configured as the voltage monitor power-good or power-good bar output, a digital input, or a programmable open-drain output. Power good is the NOR of all (See Datasheet)", 17 ~{ALERT} (oc) "Open Drain Digital Output. Connect the SMBALERT signal to this pin. A\L\E\R\T\ is asserted low when either IDAC0 or IDAC1 rails out (optional), or when one of the monitored voltages ventures outside its UV and OV thresholds (See Datasheet)", 18 SCL (in) "Serial Bus Clock Input.", 19 SDA (io) "Serial Bus Data Input and Output.", 20 GPIO_CFG (io) "GPIO Configuration Digital Input and Open Drain Output. Pulling GPIO_CFG high will cause the GPIO_0 and GPIO_1 open-drain outputs to automatically assert low after a power-on reset. If GPIO_CFG is pulled low, then GPIO_0 and (See Datasheet)", 21 ASEL1 (in) "Slave Address Select Bit 1. Tie this pin to the VDD pin, ground, or float in order to select the address location (see Table 2).", 22 ASEL0 (in) "Slave Address Select Bit 0. Tie this pin to the VDD pin, ground, or float in order to select the address location (see Table 2).", 23 REF (io) "Internal Reference Output or ADC Reference Overdrive Input. The voltage at this pin determines the full-scale input voltage of the delta-sigma ADC (VFULLSCALE = 6.65 • VREF , typically). An internal 3.5k resistor decouple(See Datasheet)", 24 RGND (power) "Reference Ground. Connect to device ground.", 25 EP (power) "Device Ground. Must be soldered to ground."

## LTC2970CUFD-1#TRPBF
designator U?
Dual I2C Power Supply Monitor and Margining Controller, 24-pin QFN (UFD-24), 0 to 70 degC, Pb-Free, Tape and Reel; Manufacturer: Linear Technology; PartNumber: LTC2970CUFD-1#TRPBF; Number of Supplies(#): 2; DatasheetVersion: Rev. C; PackageVersion: Rev. A, 06/2010; PackageReference: UFD-24; PackageDescription: 24-Pin Plastic QFN, Body 5 x 4 mm, Pitch 0.5 mm; Supplier 1: Digi-Key; Supplier Part Number 1: LTC2970CUFD-1#TRPBF-ND; Packing: Tape and Reel; RoHS: TRUE; Mounting Technology: Surface Mount; Code_JEDEC: MO-220; ComponentLink1Description: Manufacturer URL; ComponentLink1URL: http://www.linear.com/; ComponentLink2Description: Datasheet; ComponentLink2URL: http://cds.linear.com/docs/en/datasheet/29701fc.pdf; ComponentLink3Description: Package Specification; ComponentLink3URL: http://cds.linear.com/docs/en/packaging/QFN_24_05-08-1696.pdf
footprint LT-UFD-24_N (QFN, 24-Leads, Body 5.1x4.1mm, Pitch 0.5mm, Thermal Pad 3.65x2.65 mm, IPC Medium Density)
footprint LT-UFD-24_L (QFN, 24-Leads, Body 5.1x4.1mm, Pitch 0.5mm, Thermal Pad 3.65x2.65 mm, IPC High Density)
footprint LT-UFD-24_M (QFN, 24-Leads, Body 5.1x4.1mm, Pitch 0.5mm, Thermal Pad 3.65x2.65 mm, IPC Low Density)
pins: 1 VIN0_AP (in) "Positive CH0_A ADC Multiplexer Input. The output of the differential, 7:1 multiplexer connects to the input of the ADC. CH0_A can be configured to servo IDAC0.", 2 VIN0_AM (in) "Negative CH0_A ADC Multiplexer Input. The output of the differential, 7:1 multiplexer connects to the input of the ADC. CH0_A can be configured to servo IDAC0.", 3 VIN0_BP (in) "Positive CH0_B ADC Multiplexer Input. The output of the differential, 7:1 multiplexer connects to the input of the ADC. CH0_B is a voltage monitor input only.", 4 VIN0_BM (in) "Negative CH0_B ADC Multiplexer Input. The output of the differential, 7:1 multiplexer connects to the input of the ADC. CH0_B is a voltage monitor input only.", 5 VIN1_AP (in) "Positive CH1_A ADC Multiplexer Input. The output of the differential, 7:1 multiplexer connects to the input of the ADC. CH1_A can be configured to servo IDAC1.", 6 VIN1_AM (in) "Negative CH1_A ADC Multiplexer Input. The output of the differential, 7:1 multiplexer connects to the input of the ADC. CH1_A can be configured to servo IDAC1.", 7 VIN1_BP (in) "Positive CH1_B ADC Multiplexer Input. The output of the differential, 7:1 multiplexer connects to the input of the ADC. CH1_B is a voltage monitor input only.", 8 VIN1_BM (in) "Negative CH1_B ADC Multiplexer Input. The output of the differential, 7:1 multiplexer connects to the input of the ADC. CH1_B is a voltage monitor input only.", 9 VDD (power) "VDD Power Supply, Voltage Monitor Input, and Internal 5V Regulator Output. The supply input range is 4.5V to 5.75V. The VDD pin voltage can be connected to the ADC through an internal mux. Bypass the VDD pin to device ground (See Datasheet)", 10 12VIN (power) "12V Power Supply and Voltage Monitor Input. An internal regulator generates 5V from 12VIN. The input range for 12VIN is 8V to 15V. Bypass this pin with a 100nF capacitor. The regulator’s output is connected to the VDD pin(See Datasheet)", 11 VOUT0 (power) "CH0 Voltage Output. Buffered version of IDAC0 output voltage.", 12 VOUT1 (power) "CH1 Voltage Output. Buffered version of IDAC1 output voltage.", 13 IOUT1 (out) "IDAC1 Current Output. Connect a resistor between this pin and the point-of-load ground for channel 1. The IDAC sources between 0 and 255uA.", 14 IOUT0 (out) "IDAC0 Current Output. Connect a resistor between this pin and the point-of-load ground for channel 0. The IDAC sources between 0 and 255uA.", 15 GPIO_1 (io) "General Purpose Input or Open Drain Digital Output. GPIO_1 can be configured as the IDAC Fault or Faults output, a digital input, or an open-drain digital output.", 16 GPIO_0 (io) "General Purpose Input or Open Drain Digital Output. GPIO_0 can be configured as the voltage monitor power-good or power-good bar output, a digital input, or a programmable open-drain output. Power good is the NOR of all (See Datasheet)", 17 ~{ALERT} (oc) "Open Drain Digital Output. Connect the SMBALERT signal to this pin. A\L\E\R\T\ is asserted low when either IDAC0 or IDAC1 rails out (optional), or when one of the monitored voltages ventures outside its UV and OV thresholds (See Datasheet)", 18 SCL (in) "Serial Bus Clock Input.", 19 SDA (io) "Serial Bus Data Input and Output.", 20 GPIO_CFG (io) "GPIO Configuration Digital Input and Open Drain Output. Pulling GPIO_CFG high will cause the GPIO_0 and GPIO_1 open-drain outputs to automatically assert low after a power-on reset. If GPIO_CFG is pulled low, then GPIO_0 and (See Datasheet)", 21 ASEL1 (in) "Slave Address Select Bit 1. Tie this pin to the VDD pin, ground, or float in order to select the address location (see Table 2).", 22 ASEL0 (in) "Slave Address Select Bit 0. Tie this pin to the VDD pin, ground, or float in order to select the address location (see Table 2).", 23 REF (io) "Internal Reference Output or ADC Reference Overdrive Input. The voltage at this pin determines the full-scale input voltage of the delta-sigma ADC (VFULLSCALE = 6.65 • VREF , typically). An internal 3.5k resistor decouple(See Datasheet)", 24 RGND (power) "Reference Ground. Connect to device ground.", 25 EP (power) "Device Ground. Must be soldered to ground."